# Altium schematic symbol library Schlib2.SchLib: 31 symbols
Pins are listed as number, name and electrical type; pins without a type are passive.

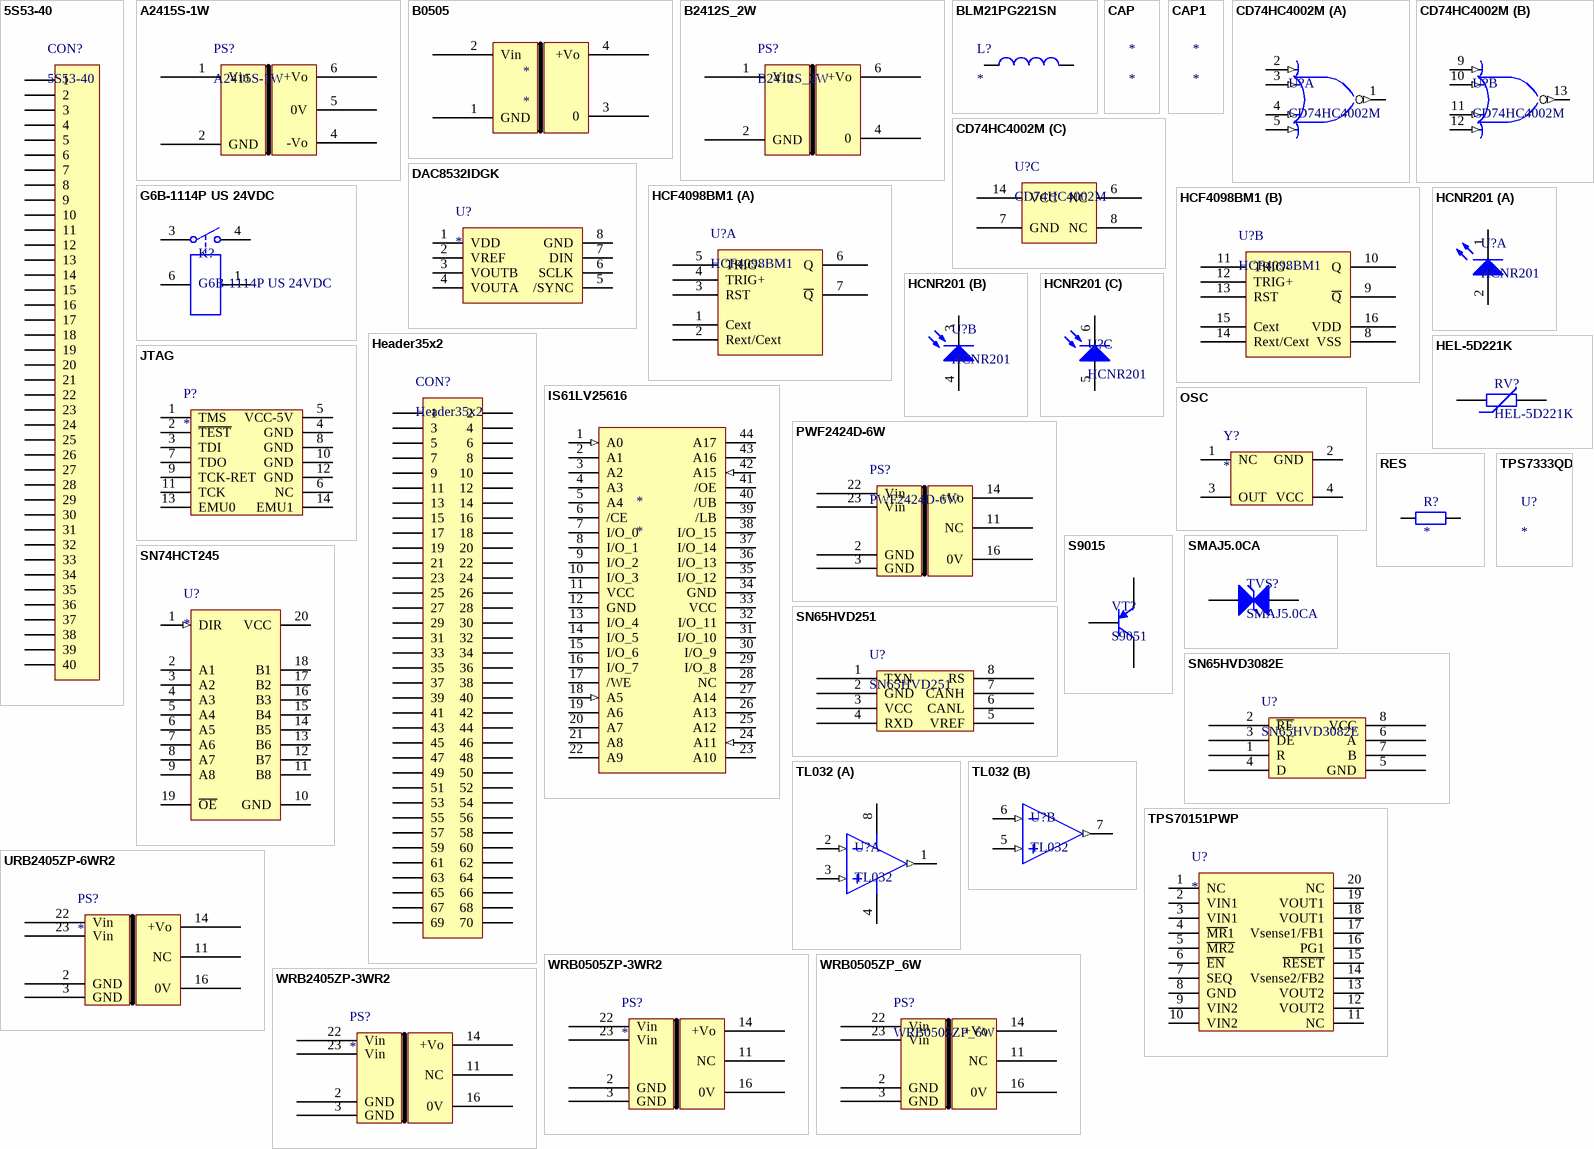
[diagram p0: symbols 5S53-40 to WRB2405ZP-3WR2]

## 5S53-40
designator CON?
pins: 1, 2, 3, 4, 5, 6, 7, 8, 9, 10, 11, 12, 13, 14, 15, 16, 17, 18, 19, 20, 21, 22, 23, 24, 25, 26, 27, 28, 29, 30, 31, 32, 33, 34, 35, 36, 37, 38, 39, 40

## A2415S-1W
designator PS?
pins: 1 Vin, 2 GND, 4 -Vo, 5 0V, 6 +Vo

## B0505
designator *
pins: 1 GND, 2 Vin, 3 0, 4 +Vo

## B2412S_2W
designator PS?
pins: 1 Vin, 2 GND, 4 0, 6 +Vo

## BLM21PG221SN
designator L?
pins: 1, 2

## CAP
designator *

## CAP1
designator *

## CD74HC4002M
designator U?
part A pins: 1 Z (out), 2 A (in), 3 B (in), 4 C (in), 5 D (in)
part B pins: 9 A (in), 10 B (in), 11 C (in), 12 D (in), 13 (out)
part C pins: 6 NC, 7 GND, 8 NC, 14 VCC

## DAC8532IDGK
designator U?
pins: 1 VDD, 2 VREF, 3 VOUTB, 4 VOUTA, 5 /SYNC, 6 SCLK, 7 DIN, 8 GND

## G6B-1114P US 24VDC
designator K?
pins: 1 4, 3 1, 4 2, 6 3

## HCF4098BM1
designator U?
part A pins: 1 Cext, 2 Rext/Cext, 3 RST, 4 TRIG+, 5 TRIG-, 6 Q, 7 ~{Q}
part B pins: 8 VSS, 9 ~{Q}, 10 Q, 11 TRIG-, 12 TRIG+, 13 RST, 14 Rext/Cext, 15 Cext, 16 VDD

## HCNR201
designator U?
part A pins: 1 K, 2 A
part B pins: 3 K, 4 A
part C pins: 5 A, 6 K

## Header35x2
designator CON?
pins: 1, 2, 3, 4, 5, 6, 7, 8, 9, 10, 11, 12, 13, 14, 15, 16, 17, 18, 19, 20, 21, 22, 23, 24, 25, 26, 27, 28, 29, 30, 31, 32, 33, 34, 35, 36, 37, 38, 39, 40, 41, 42, 43, 44, 45, 46, 47, 48, 49, 50, 51, 52, 53, 54, 55, 56, 57, 58, 59, 60, 61, 62, 63, 64, 65, 66, 67, 68, 69, 70

## HEL-5D221K
designator RV?
pins: 1, 2

## IS61LV25616
designator *
pins: 1 A0 (in), 2 A1, 3 A2, 4 A3, 5 A4, 6 /CE, 7 I/O_0, 8 I/O_1, 9 I/O_2, 10 I/O_3, 11 VCC, 12 GND, 13 I/O_4, 14 I/O_5, 15 I/O_6, 16 I/O_7, 17 /WE, 18 A5 (in), 19 A6, 20 A7, 21 A8, 22 A9, 23 A10, 24 A11 (in), 25 A12, 26 A13, 27 A14, 28 NC, 29 I/O_8, 30 I/O_9, 31 I/O_10, 32 I/O_11, 33 VCC, 34 GND, 35 I/O_12, 36 I/O_13, 37 I/O_14, 38 I/O_15, 39 /LB, 40 /UB, 41 /OE, 42 A15 (in), 43 A16, 44 A17

## JTAG
designator P?
pins: 1 TMS, 2 ~{TEST}, 3 TDI, 4 GND, 5 VCC-5V, 6 NC, 7 TDO, 8 GND, 9 TCK-RET, 10 GND, 11 TCK, 12 GND, 13 EMU0, 14 EMU1

## OSC
designator Y?
pins: 1 NC, 2 GND, 3 OUT, 4 VCC

## PWF2424D-6W
designator PS?
pins: 2 GND, 3 GND, 11 NC, 14 +Vo, 16 0V, 22 Vin, 23 Vin

## RES
designator R?
footprint 1206
pins: 1, 2

## S9015
designator VT?, comment S9051
footprint 1234 (Footprint not found)
pins: 1, 2, 3

## SMAJ5.0CA
designator TVS?
pins: 1 A, 2 K

## SN65HVD251
designator U?
pins: 1 TXN, 2 GND, 3 VCC, 4 RXD, 5 VREF, 6 CANL, 7 CANH, 8 RS

## SN65HVD3082E
designator U?
pins: 1 R, 2 ~{RE}, 3 DE, 4 D, 5 GND, 6 A, 7 B, 8 VCC

## SN74HCT245
designator U?
footprint SO20 (Footprint not found)
pins: 1 DIR (in), 2 A1, 3 A2, 4 A3, 5 A4, 6 A5, 7 A6, 8 A7, 9 A8, 10 GND, 11 B8, 12 B7, 13 B6, 14 B5, 15 B4, 16 B3, 17 B2, 18 B1, 19 ~{OE}, 20 VCC (power)

## TL032
designator U?
part A pins: 1 OUT (out), 2 IN- (in), 3 IN+ (in), 4 V- (power), 8 V+ (power)
part B pins: 5 IN+ (in), 6 IN- (in), 7 OUT (out)

## TPS7333QD
designator U?
1 alternate drawing of the same symbol

## TPS70151PWP
designator U?
pins: 1 NC, 2 VIN1, 3 VIN1, 4 ~{MR}1, 5 ~{MR2}, 6 ~{EN}, 7 SEQ, 8 GND, 9 VIN2, 10 VIN2, 11 NC, 12 VOUT2, 13 VOUT2, 14 Vsense2/FB2, 15 ~{RESET}, 16 PG1, 17 Vsense1/FB1, 18 VOUT1, 19 VOUT1, 20 NC

## URB2405ZP-6WR2
designator PS?
pins: 2 GND, 3 GND, 11 NC, 14 +Vo, 16 0V, 22 Vin, 23 Vin

## WRB0505ZP-3WR2
designator PS?
pins: 2 GND, 3 GND, 11 NC, 14 +Vo, 16 0V, 22 Vin, 23 Vin

## WRB0505ZP_6W
designator PS?
pins: 2 GND, 3 GND, 11 NC, 14 +Vo, 16 0V, 22 Vin, 23 Vin

## WRB2405ZP-3WR2
designator PS?
pins: 2 GND, 3 GND, 11 NC, 14 +Vo, 16 0V, 22 Vin, 23 Vin